# Altium schematic symbol library 74S04.SchLib: 1 symbol
Pins are listed as number, name and electrical type; pins without a type are passive.

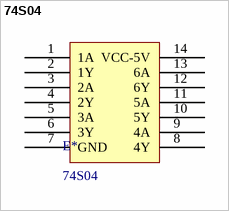
[diagram p0: symbol 74S04]

## 74S04
designator E*
Supplier 1: Mouser; Supplier Part Number 1: 595-SN74S04N
footprint DIP14
pins: 1 1A, 2 1Y, 3 2A, 4 2Y, 5 3A, 6 3Y, 7 GND, 8 4Y, 9 4A, 10 5Y, 11 5A, 12 6Y, 13 6A, 14 VCC-5V